# EAGLE library part PRT-09536 (library PRT-09536)
SparkFun Accessories MIDI Connector - Female Right Angle Source: Datasheet <https://www.sparkfun.com/datasheets/Prototyping/Connectors/MIDI-RA.pdf>
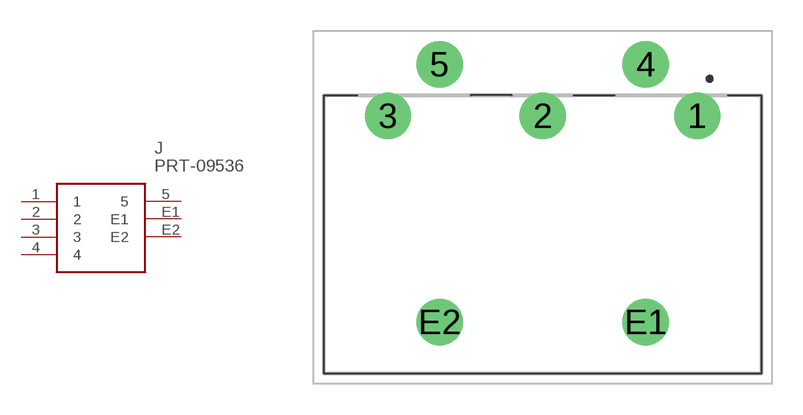
[diagram p0: symbol with the pads of PRT09536; footprint PRT09536]

Designator prefix J

## PRT-09536 (Description: SparkFun Accessories MIDI Connector - Female Right Angle; Height: 19.5mm; Manufacturer_Name: SparkFun; Manufacturer_Part_Number: PRT-09536; Mouser_Part_Number: 474-PRT-09536; Mouser_Price-Stock: https://www.mouser.co.uk/ProductDetail/SparkFun/PRT-09536?qs=WyAARYrbSnYl1e2cwkZPbQ%3D%3D)  [PRT09536]
1  1
2  2
3  3
4  4
5  5
E1  E1
E2  E2

## Footprint PRT09536 (pad centres in mm)
PRT-09536-1
drill 1.5 pad 2.25: 1 0,0; 2 -7.5,0; 3 -15,0; 4 -2.5,2.5; 5 -12.5,2.5; E1 -2.5,-10; E2 -12.5,-10